# EAGLE library part STUSB1602 (library ICs)
USB, Type-C Controller PMIC 24-QFN-EP (4x4)
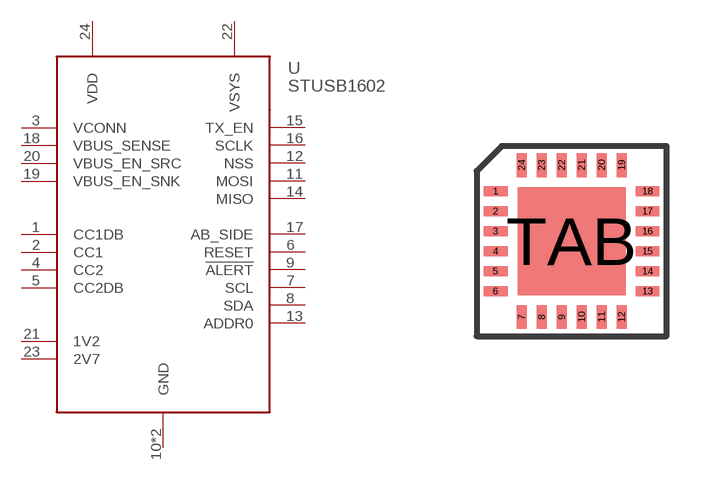
[diagram p242: symbol with the pads of QFN24; footprint QFN24]

Designator prefix U

## STUSB1602 (DIGIKEY: 497-17648-1-ND; HEIGHT: 1; PRICE_PER: 1.38; VALUE: STUSB1602A)  [QFN24]
1  CC1DB
2  CC1
3  VCONN
4  CC2
5  CC2DB
6  RESET
7  SCL
8  SDA
9  !ALERT
10  GND
11  MOSI
12  NSS
13  ADDR0
14  MISO
15  TX_EN
16  SCLK
17  AB_SIDE
18  VBUS_SENSE
19  VBUS_EN_SNK
20  VBUS_EN_SRC
21  1V2
22  VSYS
23  2V7
24  VDD
TAB  GND

## Footprint QFN24 (pad centres in mm)
smd 0.6 x 0.25: 1 -1.9,1.25; 2 -1.9,0.75; 3 -1.9,0.25; 4 -1.9,-0.25; 5 -1.9,-0.75; 6 -1.9,-1.25; 13 1.9,-1.25; 14 1.9,-0.75; 15 1.9,-0.25; 16 1.9,0.25; 17 1.9,0.75; 18 1.9,1.25
smd 0.25 x 0.6: 7 -1.25,-1.9; 8 -0.75,-1.9; 9 -0.25,-1.9; 10 0.25,-1.9; 11 0.75,-1.9; 12 1.25,-1.9; 19 1.25,1.9; 20 0.75,1.9; 21 0.25,1.9; 22 -0.25,1.9; 23 -0.75,1.9; 24 -1.25,1.9
smd 2.7 x 2.7: TAB 0,0